# Altium footprint library SOP254P1040X485-8N.PcbLib: 1 footprints
Each footprint in its own frame and in the unit in brackets; x right, y up, seen from the top. Pads: shape width x height; smd on the part's side, far side on the other; paste and mask are expansions set on the pad; w line width, h text height; cw(c..) or ccw(c..) is an arc to the next point about the centre after c.
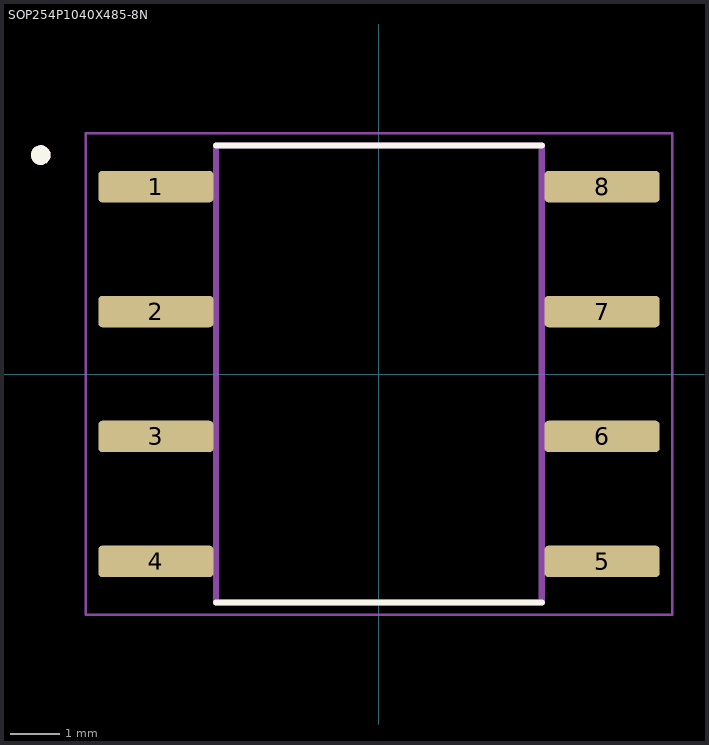
[diagram p0: the footprint, top view; thin cyan lines are the x and y axes]

## SOP254P1040X485-8N [mm]
pads (8):
  rrect25% 2.34x0.64 smd: 1(-4.535,3.81) 2(-4.535,1.27) 3(-4.535,-1.27) 4(-4.535,-3.81) 5(4.535,-3.81) 6(4.535,-1.27) 7(4.535,1.27) 8(4.535,3.81)
Top Overlay:
  circle w0.2: c-6.875,4.45 r0.1
  lines w0.127: -3.31,-4.643 3.31,-4.643 ; -3.31,4.643 3.31,4.643
Mechanical 13:
  circle w0.2: c-6.875,4.45 r0.1
  lines w0.127: -3.31,-4.643 3.31,-4.643 3.31,4.643 -3.31,4.643 -3.31,-4.643
Mechanical 15:
  lines w0.05: -5.96,-4.892 5.96,-4.892 5.96,4.892 -5.96,4.892 -5.96,-4.892